# EAGLE library part TLW-111-05-G-D (library SAMTEC-Txx_By_element14_Batch_1)
LOW PROFILE HEADER, DOUBLE ROW, 22 way
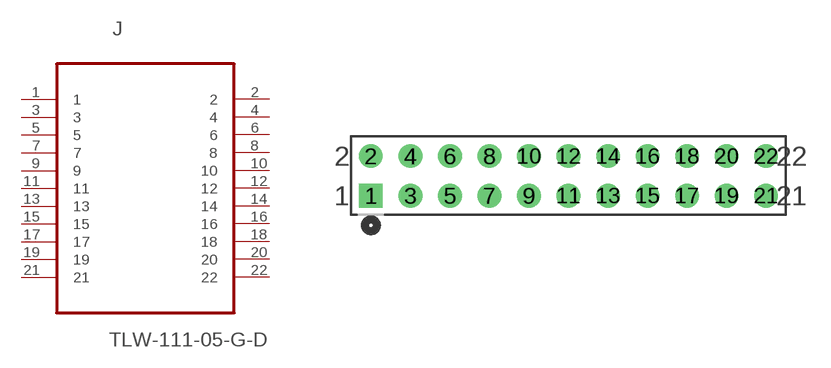
[diagram p180: symbol with the pads of SAMTEC_TLW-111-05-G-D; footprint SAMTEC_TLW-111-05-G-D]

Designator prefix J

## TLW-111-05-G-D (MPN: TLW-111-05-G-D; OC_FARNELL: -; OC_NEWARK: 12P0443; PACKAGE: LOW PROFILE HEADER; SUPPLIER: SAMTEC)  [SAMTEC_TLW-111-05-G-D]
1  1  pas
2  2  pas
3  3  pas
4  4  pas
5  5  pas
6  6  pas
7  7  pas
8  8  pas
9  9  pas
10  10  pas
11  11  pas
12  12  pas
13  13  pas
14  14  pas
15  15  pas
16  16  pas
17  17  pas
18  18  pas
19  19  pas
20  20  pas
21  21  pas
22  22  pas

## Footprint SAMTEC_TLW-111-05-G-D (pad centres in mm)
drill 1.016 square: 1 -25.4,-2.54
drill 1.016: 2 -25.4,0; 3 -22.86,-2.54; 4 -22.86,0; 5 -20.32,-2.54; 6 -20.32,0; 7 -17.78,-2.54; 8 -17.78,0; 9 -15.24,-2.54; 10 -15.24,0; 11 -12.7,-2.54; 12 -12.7,0; 13 -10.16,-2.54; 14 -10.16,0; 15 -7.62,-2.54; 16 -7.62,0; 17 -5.08,-2.54; 18 -5.08,0; 19 -2.54,-2.54; 20 -2.54,0; 21 0,-2.54; 22 0,0